# EAGLE library part RIBBON73 (library dec-con)
73 conductor white ribbon as used by DEC.
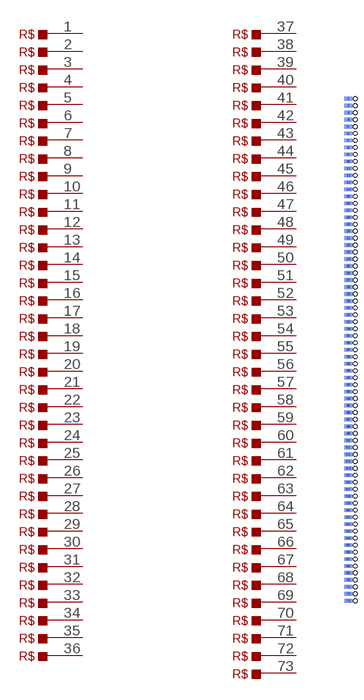
[diagram p113: symbol with the pads of RIBBON73; footprint RIBBON73]

Designator prefix R$; gates 1=PIN 2=PIN 3=PIN 4=PIN 5=PIN 6=PIN 7=PIN 8=PIN 9=PIN 10=PIN 11=PIN 12=PIN 13=PIN 14=PIN 15=PIN 16=PIN 17=PIN 18=PIN 19=PIN 20=PIN 21=PIN 22=PIN 23=PIN 24=PIN 25=PIN 26=PIN 27=PIN 28=PIN 29=PIN 30=PIN 31=PIN 32=PIN 33=PIN 34=PIN 35=PIN 36=PIN 37=PIN 38=PIN 39=PIN 40=PIN 41=PIN 42=PIN 43=PIN 44=PIN 45=PIN 46=PIN 47=PIN 48=PIN 49=PIN 50=PIN 51=PIN 52=PIN 53=PIN 54=PIN 55=PIN 56=PIN 57=PIN 58=PIN 59=PIN 60=PIN 61=PIN 62=PIN 63=PIN 64=PIN 65=PIN 66=PIN 67=PIN 68=PIN 69=PIN 70=PIN 71=PIN 72=PIN 73=PIN

## RIBBON73  [RIBBON73]
1  1:P  pas
2  2:P  pas
3  3:P  pas
4  4:P  pas
5  5:P  pas
6  6:P  pas
7  7:P  pas
8  8:P  pas
9  9:P  pas
10  10:P  pas
11  11:P  pas
12  12:P  pas
13  13:P  pas
14  14:P  pas
15  15:P  pas
16  16:P  pas
17  17:P  pas
18  18:P  pas
19  19:P  pas
20  20:P  pas
21  21:P  pas
22  22:P  pas
23  23:P  pas
24  24:P  pas
25  25:P  pas
26  26:P  pas
27  27:P  pas
28  28:P  pas
29  29:P  pas
30  30:P  pas
31  31:P  pas
32  32:P  pas
33  33:P  pas
34  34:P  pas
35  35:P  pas
36  36:P  pas
37  37:P  pas
38  38:P  pas
39  39:P  pas
40  40:P  pas
41  41:P  pas
42  42:P  pas
43  43:P  pas
44  44:P  pas
45  45:P  pas
46  46:P  pas
47  47:P  pas
48  48:P  pas
49  49:P  pas
50  50:P  pas
51  51:P  pas
52  52:P  pas
53  53:P  pas
54  54:P  pas
55  55:P  pas
56  56:P  pas
57  57:P  pas
58  58:P  pas
59  59:P  pas
60  60:P  pas
61  61:P  pas
62  62:P  pas
63  63:P  pas
64  64:P  pas
65  65:P  pas
66  66:P  pas
67  67:P  pas
68  68:P  pas
69  69:P  pas
70  70:P  pas
71  71:P  pas
72  72:P  pas
73  73:P  pas

## Footprint RIBBON73 (pad centres in mm)
73 conductor white ribbon used by DEC.
smd 1.676 x 0.813 bottom: 1 -1.524,54.864; 2 -1.524,53.34; 3 -1.524,51.816; 4 -1.524,50.292; 5 -1.524,48.768; 6 -1.524,47.244; 7 -1.524,45.72; 8 -1.524,44.196; 9 -1.524,42.672; 10 -1.524,41.148; 11 -1.524,39.624; 12 -1.524,38.1; 13 -1.524,36.576; 14 -1.524,35.052; 15 -1.524,33.528; 16 -1.524,32.004; 17 -1.524,30.48; 18 -1.524,28.956; 19 -1.524,27.432; 20 -1.524,25.908; 21 -1.524,24.384; 22 -1.524,22.86; 23 -1.524,21.336; 24 -1.524,19.812; 25 -1.524,18.288; 26 -1.524,16.764; 27 -1.524,15.24; 28 -1.524,13.716; 29 -1.524,12.192; 30 -1.524,10.668; 31 -1.524,9.144; 32 -1.524,7.62; 33 -1.524,6.096; 34 -1.524,4.572; 35 -1.524,3.048; 36 -1.524,1.524; 37 -1.524,0; 38 -1.524,-1.524; 39 -1.524,-3.048; 40 -1.524,-4.572; 41 -1.524,-6.096; 42 -1.524,-7.62; 43 -1.524,-9.144; 44 -1.524,-10.668; 45 -1.524,-12.192; 46 -1.524,-13.716; 47 -1.524,-15.24; 48 -1.524,-16.764; 49 -1.524,-18.288; 50 -1.524,-19.812; 51 -1.524,-21.336; 52 -1.524,-22.86; 53 -1.524,-24.384; 54 -1.524,-25.908; 55 -1.524,-27.432; 56 -1.524,-28.956; 57 -1.524,-30.48; 58 -1.524,-32.004; 59 -1.524,-33.528; 60 -1.524,-35.052; 61 -1.524,-36.576; 62 -1.524,-38.1; 63 -1.524,-39.624; 64 -1.524,-41.148; 65 -1.524,-42.672; 66 -1.524,-44.196; 67 -1.524,-45.72; 68 -1.524,-47.244; 69 -1.524,-48.768; 70 -1.524,-50.292; 71 -1.524,-51.816; 72 -1.524,-53.34; 73 -1.524,-54.864
hole 0.813 at 0,54.864
hole 0.813 at 0,53.34
hole 0.813 at 0,51.816
hole 0.813 at 0,50.292
hole 0.813 at 0,48.768
hole 0.813 at 0,47.244
hole 0.813 at 0,45.72
hole 0.813 at 0,44.196
hole 0.813 at 0,42.672
hole 0.813 at 0,41.148
hole 0.813 at 0,39.624
hole 0.813 at 0,38.1
hole 0.813 at 0,36.576
hole 0.813 at 0,35.052
hole 0.813 at 0,33.528
hole 0.813 at 0,32.004
hole 0.813 at 0,30.48
hole 0.813 at 0,28.956
hole 0.813 at 0,27.432
hole 0.813 at 0,25.908
hole 0.813 at 0,24.384
hole 0.813 at 0,22.86
hole 0.813 at 0,21.336
hole 0.813 at 0,19.812
hole 0.813 at 0,18.288
hole 0.813 at 0,16.764
hole 0.813 at 0,15.24
hole 0.813 at 0,13.716
hole 0.813 at 0,12.192
hole 0.813 at 0,10.668
hole 0.813 at 0,9.144
hole 0.813 at 0,7.62
hole 0.813 at 0,6.096
hole 0.813 at 0,4.572
hole 0.813 at 0,3.048
hole 0.813 at 0,1.524
hole 0.813 at 0,0
hole 0.813 at 0,-1.524
hole 0.813 at 0,-3.048
hole 0.813 at 0,-4.572
hole 0.813 at 0,-6.096
hole 0.813 at 0,-7.62
hole 0.813 at 0,-9.144
hole 0.813 at 0,-10.668
hole 0.813 at 0,-12.192
hole 0.813 at 0,-13.716
hole 0.813 at 0,-15.24
hole 0.813 at 0,-16.764
hole 0.813 at 0,-18.288
hole 0.813 at 0,-19.812
hole 0.813 at 0,-21.336
hole 0.813 at 0,-22.86
hole 0.813 at 0,-24.384
hole 0.813 at 0,-25.908
hole 0.813 at 0,-27.432
hole 0.813 at 0,-28.956
hole 0.813 at 0,-30.48
hole 0.813 at 0,-32.004
hole 0.813 at 0,-33.528
hole 0.813 at 0,-35.052
hole 0.813 at 0,-36.576
hole 0.813 at 0,-38.1
hole 0.813 at 0,-39.624
hole 0.813 at 0,-41.148
hole 0.813 at 0,-42.672
hole 0.813 at 0,-44.196
hole 0.813 at 0,-45.72
hole 0.813 at 0,-47.244
hole 0.813 at 0,-48.768
hole 0.813 at 0,-50.292
hole 0.813 at 0,-51.816
hole 0.813 at 0,-53.34
hole 0.813 at 0,-54.864